# Altium footprint library DST800_NMEA2k-CAN_Indicator.PcbLib: 17 footprints (part 1 of 2)
Each footprint in its own frame and in the unit in brackets; x right, y up, seen from the top. Pads: shape width x height; smd on the part's side, far side on the other; paste and mask are expansions set on the pad; w line width, h text height; cw(c..) or ccw(c..) is an arc to the next point about the centre after c.
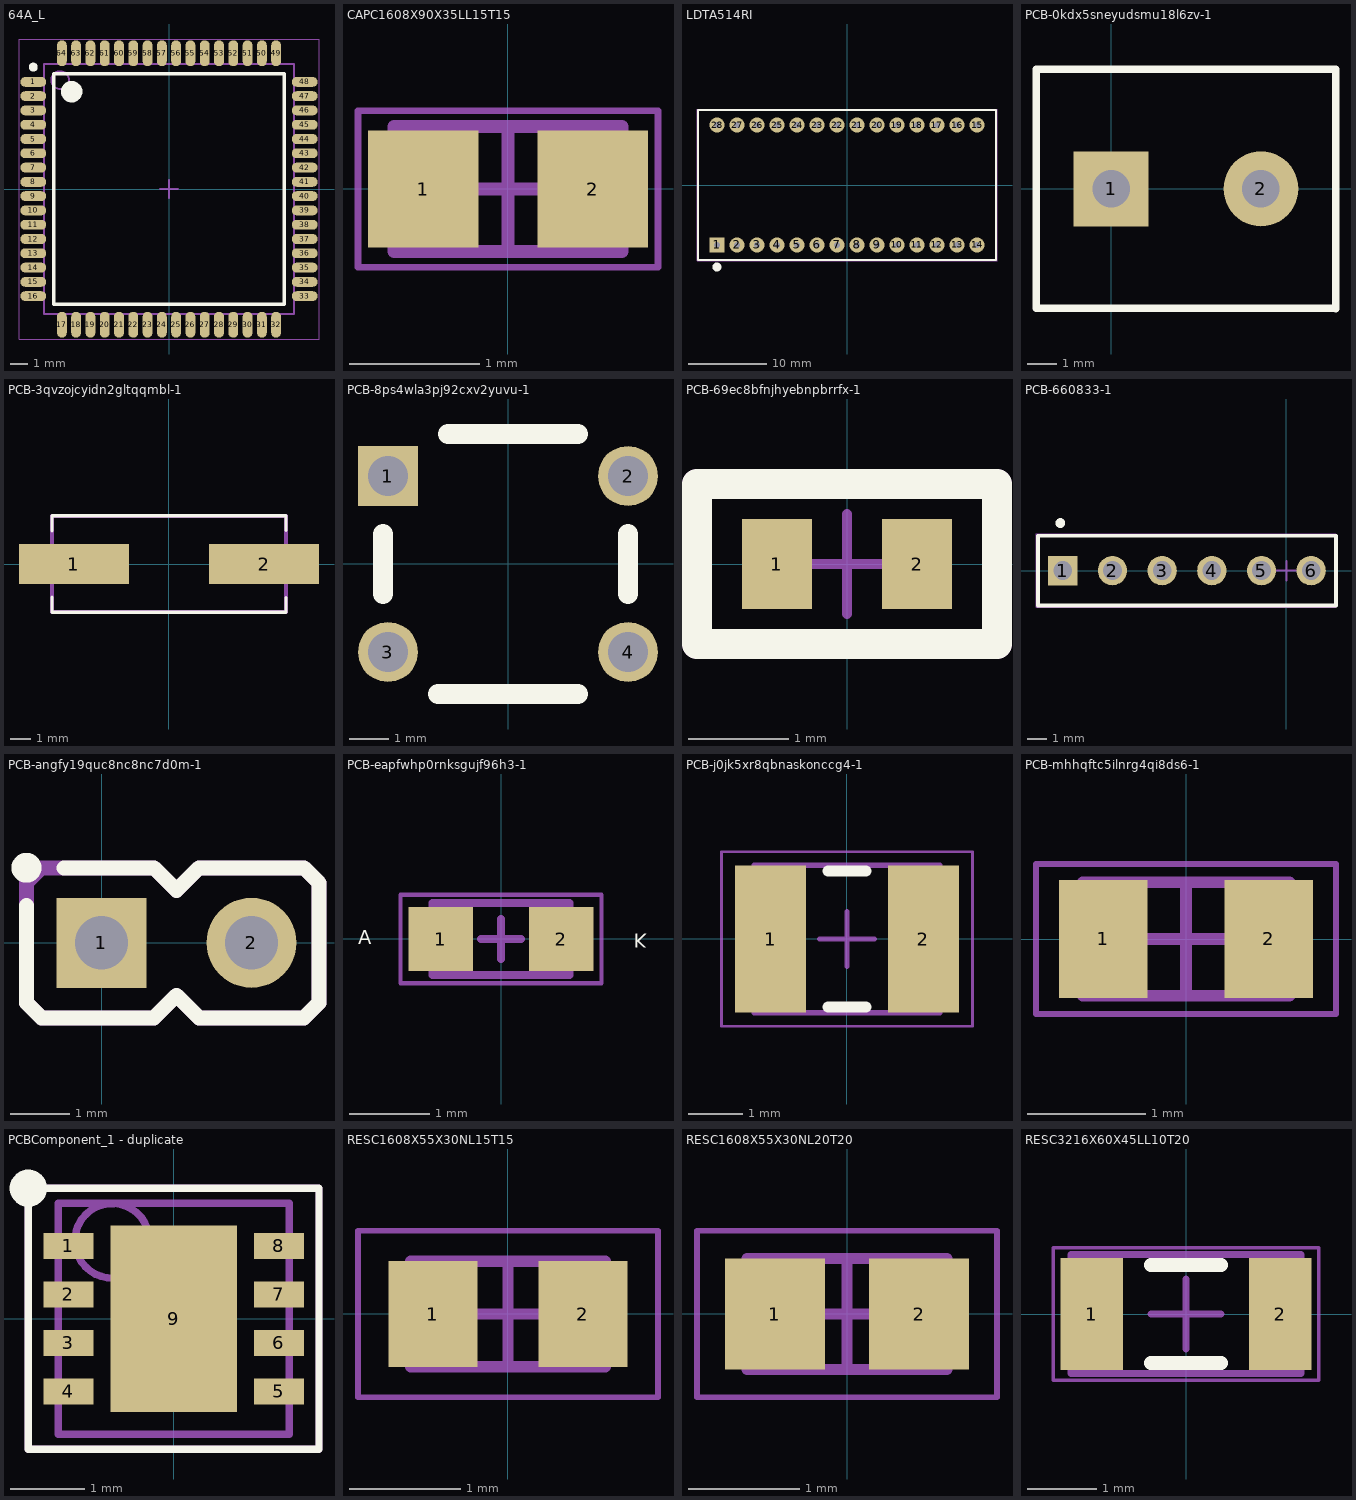
[diagram p0: the footprints below, top view; thin cyan lines are the x and y axes]

## 64A_L [mm] "Thin QFP, 64-Leads, Body 14x14mm, Pitch 0.8mm, IPC High Density"
height 1.2
pads (64):
  oval 1.45x0.55 smd: 1(-7.6,6) 2(-7.6,5.2) 3(-7.6,4.4) 4(-7.6,3.6) 5(-7.6,2.8) 6(-7.6,2) 7(-7.6,1.2) 8(-7.6,0.4) 9(-7.6,-0.4) 10(-7.6,-1.2) 11(-7.6,-2) 12(-7.6,-2.8) 13(-7.6,-3.6) 14(-7.6,-4.4) 15(-7.6,-5.2) 16(-7.6,-6) 33(7.6,-6) 34(7.6,-5.2) 35(7.6,-4.4) 36(7.6,-3.6) 37(7.6,-2.8) 38(7.6,-2) 39(7.6,-1.2) 40(7.6,-0.4) 41(7.6,0.4) 42(7.6,1.2) 43(7.6,2) 44(7.6,2.8) 45(7.6,3.6) 46(7.6,4.4) 47(7.6,5.2) 48(7.6,6)
  oval 0.55x1.45 smd: 17(-6,-7.6) 18(-5.2,-7.6) 19(-4.4,-7.6) 20(-3.6,-7.6) 21(-2.8,-7.6) 22(-2,-7.6) 23(-1.2,-7.6) 24(-0.4,-7.6) 25(0.4,-7.6) 26(1.2,-7.6) 27(2,-7.6) 28(2.8,-7.6) 29(3.6,-7.6) 30(4.4,-7.6) 31(5.2,-7.6) 32(6,-7.6) 49(6,7.6) 50(5.2,7.6) 51(4.4,7.6) 52(3.6,7.6) 53(2.8,7.6) 54(2,7.6) 55(1.2,7.6) 56(0.4,7.6) 57(-0.4,7.6) 58(-1.2,7.6) 59(-2,7.6) 60(-2.8,7.6) 61(-3.6,7.6) 62(-4.4,7.6) 63(-5.2,7.6) 64(-6,7.6)
Top Overlay:
  circle w0.6: c-5.45,5.45 r0.3
  circle w0.25: c-7.6,6.825 r0.125
  lines w0.2: -6.45,-6.45 6.45,-6.45 6.45,6.45 -6.45,6.45 -6.45,-6.45
Mechanical 13:
  circle w0.1: c-6.1,6.1 r0.5
  lines w0.1: -7,-7 7,-7 7,7 -7,7 -7,-7
Mechanical 15:
  lines w0.05: -8.4,-8.4 8.4,-8.4 8.4,8.4 -8.4,8.4 -8.4,-8.4
  lines w0.1: -0.5,0 0.5,0 ; 0,-0.5 0,0.5
3D body: height 1.6, standoff 0, extent -7,-7 7,7

## CAPC1608X90X35LL15T15 [mm] "CAPC1608X90X35LL15T15"
height 0.9
pads (2):
  rect 0.85x0.9 smd: 1(-0.65,0) 2(0.65,0)
Mechanical 13:
  lines w0.1: -0.875,-0.48 -0.875,0.48 0.875,0.48 0.875,-0.48 -0.875,-0.48
Mechanical 15:
  lines w0.05: -1.15,-0.6 -1.15,0.6 1.15,0.6 1.15,-0.6 -1.15,-0.6
  lines w0.1: -0.48,0 0.48,0 ; 0,-0.48 0,0.48
3D body: height 0.9, standoff 0, extent -0.525,-0.48 0.525,0.48
3D body: height 0.9, standoff 0, extent -0.875,-0.48 -0.525,0.48
3D body: height 0.9, standoff 0, extent 0.525,-0.48 0.875,0.48

## LDTA514RI [mm] "Lumex 2 digit 7 segment display"
height 8
pads (28):
  rect 1.905x1.905 hole 0.8: 1(-16.51,-7.62)
  round 1.905 hole 0.8: 2(-13.97,-7.62) 3(-11.43,-7.62) 4(-8.89,-7.62) 5(-6.35,-7.62) 6(-3.81,-7.62) 7(-1.27,-7.62) 8(1.27,-7.62) 9(3.81,-7.62) 10(6.35,-7.62) 11(8.89,-7.62) 12(11.43,-7.62) 13(13.97,-7.62) 14(16.51,-7.62) 15(16.51,7.62) 16(13.97,7.62) 17(11.43,7.62) 18(8.89,7.62) 19(6.35,7.62) 20(3.81,7.62) 21(1.27,7.62) 22(-1.27,7.62) 23(-3.81,7.62) 24(-6.35,7.62) 25(-8.89,7.62) 26(-11.43,7.62) 27(-13.97,7.62) 28(-16.51,7.62)
Top Overlay:
  circle w0.635: c-16.51,-10.414 r0.254
  lines w0.2: -18.923,-9.525 18.923,-9.525 18.923,9.525 -18.923,9.525 -18.923,-9.525
Mechanical 1:
  lines w0.1: -19.05,-9.652 19.05,-9.652 19.05,9.652 -19.05,9.652 -19.05,-9.652
3D body "User Library-lumex ldt-a512ri.step": height 12, standoff -4, extent -18.9,-9.5 18.9,9.5

## PCB-0kdx5sneyudsmu18l6zv-1 [mm]
pads (2):
  rect 2.54x2.54 hole 1.27: 1(0,0)
  round 2.54 hole 1.27: 2(5.08,0)
Top Overlay:
  lines w0.254: 7.62,-4.064 7.62,4.05 -2.54,4.05 -2.54,-4.05 7.62,-4.05
3D body "1729128.stp": height 10.01, standoff -3.49, extent -3.079,-4.036 7.651,4.064

## PCB-3qvzojcyidn2gltqqmbl-1 [mm]
pads (2):
  rect 5.5x2 smd: 1(-4.75,0) 2(4.75,0)
Top Overlay:
  lines w0.152: -5.842,-1.651 -5.842,-2.413 5.842,-2.413 5.842,-1.666 ; -5.842,1.651 -5.842,2.413 5.842,2.413 5.842,1.666
Mechanical 13:
  lines w0.2: -5.842,-2.4 -5.842,2.4 5.842,2.4 5.842,-2.4 -5.842,-2.4
3D body "HC49US.step": height 4.5, standoff 0, extent -6.95,-2.5 6.95,2.5

## PCB-8ps4wla3pj92cxv2yuvu-1 [mil]
pads (4):
  rect 60x60 hole 40: 1(-120,88)
  round 60 hole 40: 2(120,88) 3(-120,-88) 4(120,-88)
Top Overlay:
  lines w20: -125,-30 -125,30 ; -70,-130 70,-130 ; -60,130 70,130 ; 120,-30 120,30
3D body "c-1825910-6-c-3d.stp": height 235, standoff -100.04, extent -153.54,-117.91 153.54,117.91

## PCB-69ec8bfnjhyebnpbrrfx-1 [mm]
pads (2):
  rect 0.7x0.9 smd: 1(-0.7,0) 2(0.7,0)
Top Overlay:
  lines w0.3: -1.5,-0.8 1.5,-0.8 1.5,0.8 -1.5,0.8 -1.5,-0.8
Mechanical 6:
  text ".Designator" at -1.2,-0.4 h1.5
Mechanical 8:
  lines w0.3: -1.5,-0.8 -1.5,0.8 1.5,0.8 1.5,-0.8 -1.5,-0.8
Mechanical 15:
  lines w0.1: -0.5,0 0.5,0 ; 0,-0.5 0,0.5 ; -1.5,-0.8 -1.5,0.8 1.5,0.8 1.5,-0.8 -1.5,-0.8
3D body: height 0.6, standoff 0, extent -0.5,-0.4 0.5,0.4
3D body: height 0.6, standoff 0, extent 0.5,-0.4 0.8,0.4
3D body: height 0.6, standoff 0, extent -0.8,-0.4 -0.5,0.4

## PCB-660833-1 [mm] "TE-5-534237-8"
height 8.64
pads (6):
  rect 1.5x1.5 hole 0.96: 1(-11.43,0)
  round 1.5 hole 0.96: 2(-8.89,0) 3(-6.35,0) 4(-3.81,0) 5(-1.27,0) 6(1.27,0)
Top Overlay:
  circle w0.25: c-11.557,2.43 r0.125
  lines w0.2: -12.7,-1.78 2.54,-1.78 2.54,1.78 -12.7,1.78 -12.7,-1.78
Mechanical 13:
  lines w0.1: -12.7,-1.78 2.54,-1.78 2.54,1.78 -12.7,1.78 -12.7,-1.78 ; -11.75,-0.32 -11.11,-0.32 -11.11,0.32 -11.75,0.32 -11.75,-0.32 ; -9.21,-0.32 -8.57,-0.32 -8.57,0.32 -9.21,0.32 -9.21,-0.32 ; -6.67,-0.32 -6.03,-0.32 -6.03,0.32 -6.67,0.32 -6.67,-0.32 ; -4.13,-0.32 -3.49,-0.32 -3.49,0.32 -4.13,0.32 -4.13,-0.32 ; -1.59,-0.32 -0.95,-0.32 -0.95,0.32 -1.59,0.32 -1.59,-0.32 ; 0.95,-0.32 0.95,0.32 1.59,0.32 1.59,-0.32 0.95,-0.32
Mechanical 15:
  lines w0.05: -12.8,-1.88 2.54,-1.88 2.54,1.88 -12.8,1.88 -12.8,-1.88
  lines w0.1: -0.5,0 0.5,0 ; 0,-0.5 0,0.5
3D body: height 7.6, standoff 0, extent 0.636,-0.634 1.904,0.634
3D body: height 7.6, standoff 0, extent -6.984,-0.634 -5.716,0.634
3D body: height 7.6, standoff 0, extent -1.904,-0.634 -0.636,0.634
3D body: height 7.6, standoff 0, extent -4.444,-0.634 -3.176,0.634
3D body: height 7.6, standoff 0, extent -12.064,-0.634 -10.796,0.634
3D body: height 7.6, standoff 0, extent -9.524,-0.634 -8.256,0.634
3D body: height 0, standoff -2.92, extent 0.95,-0.32 1.59,0.32
3D body: height 0, standoff -2.92, extent -1.59,-0.32 -0.95,0.32
3D body: height 0, standoff -2.92, extent -4.13,-0.32 -3.49,0.32
3D body: height 0, standoff -2.92, extent -6.67,-0.32 -6.03,0.32
3D body: height 0, standoff -2.92, extent -9.21,-0.32 -8.57,0.32
3D body: height 0, standoff -2.92, extent -11.75,-0.32 -11.11,0.32

## PCB-angfy19quc8nc8nc7d0m-1 [mil]
pads (2):
  rect 60x60 hole 35.43: 1(0,0)
  round 60 hole 35.43: 2(100,0)
Top Overlay:
  circle w10: c-50,50 r5
  lines w10: -50,25 -50,-40 -40,-50 35,-50 50,-35 65,-50 135,-50 145,-40 145,40 135,50 65,50 50,35 35,50 -25,50
Mechanical 8:
  lines w10: -50,-40 -50,0 -50,40 -40,50 35,50 50,35 65,50 135,50 145,40 145,-40 135,-50 65,-50 50,-35 35,-50 -40,-50 -50,-40
3D body "1x2 v1.step": height 373.85, standoff -125.98, extent -50,-50 150,50

## PCB-eapfwhp0rnksgujf96h3-1 [mm] "LTON_LTST-C190GKT"
height 0.9
pads (2):
  rect 0.8x0.8 smd: 1(-0.75,0) 2(0.75,0)
Top Overlay:
  text "A" at -1.778,-0.127 h0.3
  text "K" at 1.651,0.127 h0.3
Mechanical 13:
  rectangle: 0.5,-0.45 0.85,0.45
  lines w0.1: -0.85,-0.45 0.85,-0.45 0.85,0.45 -0.85,0.45 -0.85,-0.45
Mechanical 15:
  lines w0.05: -1.25,-0.55 -1.25,0.55 1.25,0.55 1.25,-0.55 -1.25,-0.55
  lines w0.1: -0.25,0 0.25,0 ; 0,-0.25 0,0.25
3D body: height 0.9, standoff 0, extent -0.8,-0.4 0.8,0.4

## PCB-j0jk5xr8qbnaskonccg4-1 [mm] "CAPC3225X279X50NL20T25"
height 2.79
pads (2):
  rect 1.3x2.7 smd: 1(-1.4,0) 2(1.4,0)
Top Overlay:
  lines w0.2: -0.35,-1.25 0.35,-1.25 ; -0.35,1.25 0.35,1.25
Mechanical 13:
  lines w0.1: -1.7,-1.35 1.7,-1.35 1.7,1.35 -1.7,1.35 -1.7,-1.35
Mechanical 15:
  lines w0.05: -2.3,-1.6 2.3,-1.6 2.3,1.6 -2.3,1.6 -2.3,-1.6
  lines w0.1: -0.5,0 0.5,0 ; 0,-0.5 0,0.5
3D body: height 2.79, standoff 0, extent 1.2,-1.35 1.7,1.35
3D body: height 2.79, standoff 0, extent -1.7,-1.35 -1.2,1.35
3D body: height 2.79, standoff 0, extent -1.2,-1.35 1.2,1.35

## PCB-mhhqftc5ilnrg4qi8ds6-1 [mm] "CAPC1608X90X35NL15T15"
height 0.9
pads (2):
  rect 0.75x1 smd: 1(-0.7,0) 2(0.7,0)
Mechanical 13:
  lines w0.1: -0.875,-0.48 -0.875,0.48 0.875,0.48 0.875,-0.48 -0.875,-0.48
Mechanical 15:
  lines w0.05: -1.27,-0.635 -1.27,0.635 1.27,0.635 1.27,-0.635 -1.27,-0.635
  lines w0.1: -0.48,0 0.48,0 ; 0,-0.48 0,0.48
3D body: height 0.9, standoff 0, extent -0.525,-0.48 0.525,0.48
3D body: height 0.9, standoff 0, extent -0.875,-0.48 -0.525,0.48
3D body: height 0.9, standoff 0, extent 0.525,-0.48 0.875,0.48

## PCBComponent_1 - duplicate [mm]
pads (9):
  rect 0.675x0.35 smd: 1(-1.412,0.975) 2(-1.412,0.325) 3(-1.412,-0.325) 4(-1.412,-0.975) 5(1.412,-0.975) 6(1.412,-0.325) 7(1.412,0.325) 8(1.412,0.975)
  rect 1.7x2.5 smd paste-3: 9(0,0)
Top Overlay:
  circle w0.25: c-1.95,1.75 r0.125
  lines w0.1: -1.95,-1.75 -1.95,1.75 1.95,1.75 1.95,-1.75 -1.95,-1.75
Top Paste:
  rectangle: -0.775,0.05 0.775,1.175
  rectangle: -0.775,-1.175 0.775,-0.05
Mechanical 13:
  circle w0.1: c-0.825,1.045 r0.5
  lines w0.1: -1.55,-1.55 1.55,-1.55 1.55,1.55 -1.55,1.55 -1.55,-1.55
Mechanical 15:
  lines w0.1: -0.5,0 0.5,0 ; 0,-0.5 0,0.5 ; -1.95,-1.75 1.95,-1.75 1.95,1.75 -1.95,1.75 -1.95,-1.75
3D body: height 0, standoff 0, extent -1.949,-1.749 1.949,1.749
3D body: height 0, standoff 0, extent -0.501,-0.501 0.501,0.501
3D body: height 0, standoff 0, extent -1.324,0.546 -0.326,1.544
3D body: height 0, standoff 0, extent -1.851,-1.352 1.852,1.352
3D body: height 0, standoff 0, extent -1.549,-1.549 1.549,1.549
3D body: height 0, standoff 0, extent -2,-1.8 2,1.8
3D body: height 0, standoff 0, extent -1.949,-1.749 1.949,1.749
3D body: height 0, standoff 0, extent -2.2,-1.8 2,2
3D body: height 0, standoff 0, extent -2.2,-1.8 2,2
3D body: height 0, standoff 0, extent -0.775,-1.175 0.775,1.175
3D body: height 0, standoff 0, extent -1.6,-1.6 1.6,1.6
3D body: height 1, standoff 0, extent -1.55,-1.55 1.55,1.55

## RESC1608X55X30NL15T15 [mm] "RESC1608X55X30NL15T15"
height 0.55
pads (2):
  rect 0.8x0.95 smd: 1(-0.675,0) 2(0.675,0)
Mechanical 13:
  lines w0.1: -0.875,-0.475 -0.875,0.475 0.875,0.475 0.875,-0.475 -0.875,-0.475
Mechanical 15:
  lines w0.05: -1.35,-0.75 -1.35,0.75 1.35,0.75 1.35,-0.75 -1.35,-0.75
  lines w0.1: -0.475,0 0.475,0 ; 0,-0.475 0,0.475
3D body: height 0.55, standoff 0, extent -0.575,-0.475 0.575,0.475
3D body: height 0.55, standoff 0, extent -0.875,-0.475 -0.575,0.475
3D body: height 0.55, standoff 0, extent 0.575,-0.475 0.875,0.475

## RESC1608X55X30NL20T20 [mm] "RESC1608X55X30NL20T20"
height 0.55
pads (2):
  rect 0.9x1 smd: 1(-0.65,0) 2(0.65,0)
Mechanical 13:
  lines w0.1: -0.9,-0.5 0.9,-0.5 0.9,0.5 -0.9,0.5 -0.9,-0.5
Mechanical 15:
  lines w0.05: -1.35,-0.75 1.35,-0.75 1.35,0.75 -1.35,0.75 -1.35,-0.75
  lines w0.1: -0.5,0 0.5,0 ; 0,-0.5 0,0.5
3D body: height 0.55, standoff 0, extent 0.6,-0.5 0.9,0.5
3D body: height 0.55, standoff 0, extent -0.9,-0.5 -0.6,0.5
3D body: height 0.55, standoff 0, extent -0.6,-0.5 0.6,0.5

## RESC3216X60X45LL10T20 [mm] "RESC3216X60X45LL10T20"
height 0.6
pads (2):
  rect 0.9x1.6 smd: 1(-1.35,0) 2(1.35,0)
Top Overlay:
  lines w0.2: -0.5,-0.7 0.5,-0.7 ; -0.5,0.7 0.5,0.7
Mechanical 13:
  lines w0.1: -1.65,-0.85 1.65,-0.85 1.65,0.85 -1.65,0.85 -1.65,-0.85
Mechanical 15:
  lines w0.05: -1.9,-0.95 1.9,-0.95 1.9,0.95 -1.9,0.95 -1.9,-0.95
  lines w0.1: -0.5,0 0.5,0 ; 0,-0.5 0,0.5
3D body: height 0.6, standoff 0, extent 1.2,-0.85 1.65,0.85
3D body: height 0.6, standoff 0, extent -1.65,-0.85 -1.2,0.85
3D body: height 0.6, standoff 0, extent -1.2,-0.85 1.2,0.85